# Altium footprint library MIC_CMA-4544PF-W.PcbLib: 1 footprints
Each footprint in its own frame and in the unit in brackets; x right, y up, seen from the top. Pads: shape width x height; smd on the part's side, far side on the other; paste and mask are expansions set on the pad; w line width, h text height; cw(c..) or ccw(c..) is an arc to the next point about the centre after c.
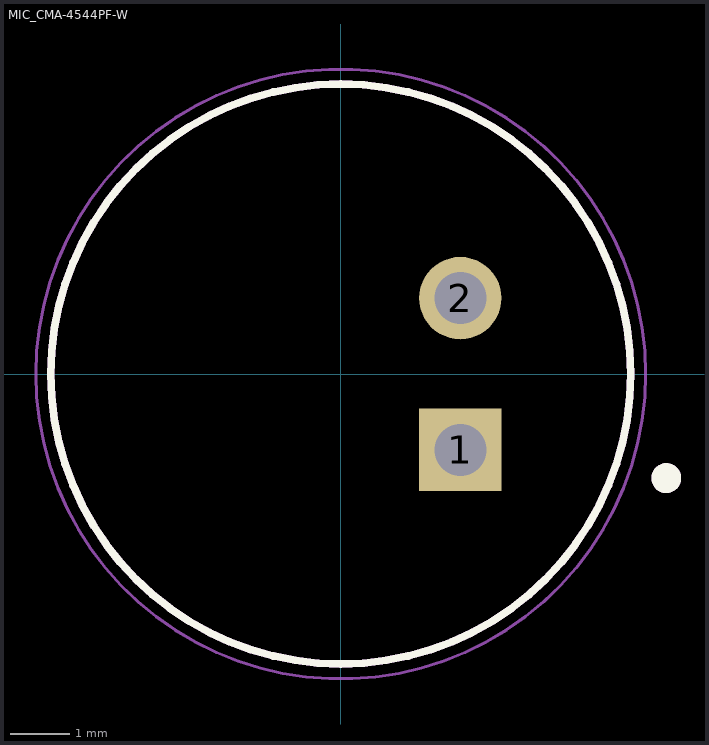
[diagram p0: the footprint, top view; thin cyan lines are the x and y axes]

## MIC_CMA-4544PF-W [mm]
pads (2):
  rect 1.378x1.378 hole 0.87: 1(2,-1.27)
  round 1.378 hole 0.87: 2(2,1.27)
Top Overlay:
  circle w0.127: c0,0 r4.85
  circle w0.3: c5.443,-1.741 r0.1
Mechanical 13:
  circle w0.127: c0,0 r4.85
  circle w0.3: c5.443,-1.741 r0.1
Mechanical 15:
  circle w0.05: c0,0 r5.1